# Altium footprint library 2004850230.PcbLib: 1 footprints
Each footprint in its own frame and in the unit in brackets; x right, y up, seen from the top. Pads: shape width x height; smd on the part's side, far side on the other; paste and mask are expansions set on the pad; w line width, h text height; cw(c..) or ccw(c..) is an arc to the next point about the centre after c.
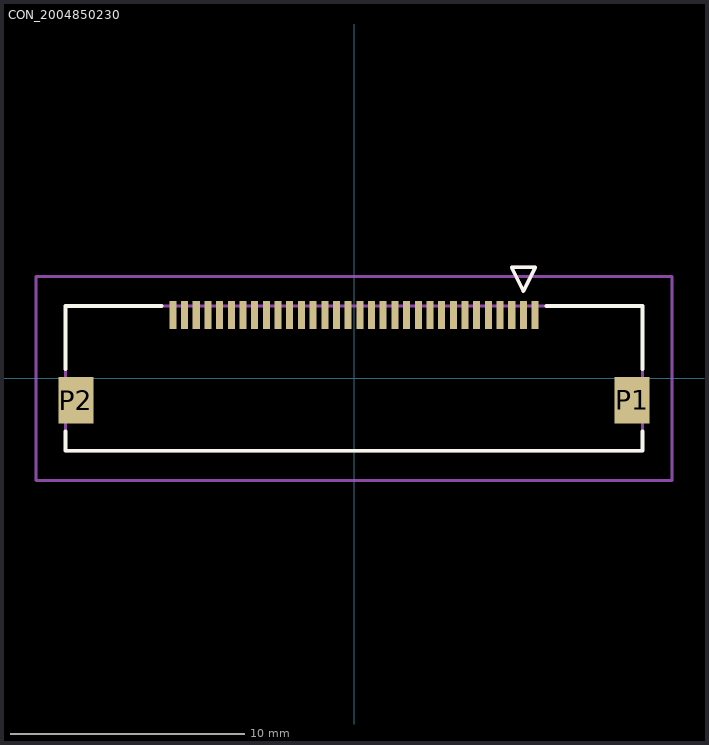
[diagram p0: the footprint, top view; thin cyan lines are the x and y axes]

## CON_2004850230 [mm]
pads (34):
  rect 0.3x1.2 smd paste+0 mask+0.076: 1(7.25,2.72) 2(6.75,2.72) 3(6.25,2.72) 4(5.75,2.72) 5(5.25,2.72) 6(4.75,2.72) 7(4.25,2.72) 8(3.75,2.72) 9(3.25,2.72) 10(2.75,2.72) 11(2.25,2.72) 12(1.75,2.72) 13(1.25,2.72) 14(0.75,2.72) 15(0.25,2.72) 16(-0.25,2.72) 17(-0.75,2.72) 18(-1.25,2.72) 19(-1.75,2.72) 20(-2.25,2.72) 21(-2.75,2.72) 22(-3.25,2.72) 23(-3.75,2.72) 24(-4.25,2.72) 25(-4.75,2.72) 26(-5.25,2.72) 27(-5.75,2.72) 28(-6.25,2.72) 29(-6.75,2.72) 30(-7.25,2.72) G1(7.75,2.72) G2(-7.75,2.72)
  rect 1.5x2 smd paste+0 mask+0.076: P1(11.9,-0.93) P2(-11.9,-0.93)
Top Overlay:
  lines w0.152: -12.345,-2.25 -12.345,-3.1 12.345,-3.1 12.345,-2.25 ; -12.345,0.39 -12.345,3.1 -8.22,3.1 ; 8.22,3.1 12.345,3.1 12.345,0.39 ; 6.742,4.752 7.25,3.736 7.758,4.752 6.742,4.752
Mechanical 13:
  lines w0.127: -12.345,-3.1 -12.345,3.1 12.345,3.1 12.345,-3.1 -12.345,-3.1
  lines w0.152: 6.742,4.752 7.25,3.736 7.758,4.752 6.742,4.752
Mechanical 15:
  lines w0.127: -13.615,-4.37 13.615,-4.37 13.615,4.37 -13.615,4.37 -13.615,-4.37